# Altium footprint library Molex_Picoblade_6pin_530470610.PcbLib: 1 footprints
Each footprint in its own frame and in the unit in brackets; x right, y up, seen from the top. Pads: shape width x height; smd on the part's side, far side on the other; paste and mask are expansions set on the pad; w line width, h text height; cw(c..) or ccw(c..) is an arc to the next point about the centre after c.
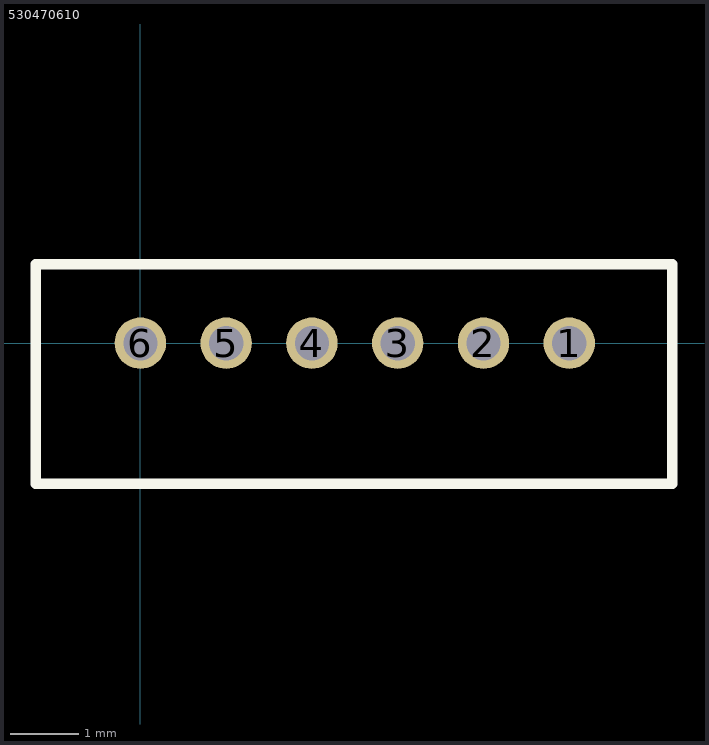
[diagram p0: the footprint, top view; thin cyan lines are the x and y axes]

## 530470610 [mm] "Molex Picoblade 6 pin"
pads (6):
  round 0.75 hole 0.5: 1(6.25,0) 2(5,0) 3(3.75,0) 4(2.5,0) 5(1.25,0) 6(0,0)
Top Overlay:
  lines w0.15: -1.524,1.15 7.749,1.15 7.75,-2.05 -1.523,-2.05 -1.524,1.15
3D body "Molex_530470610.stp": height 4.28, standoff -2.22, extent -1.503,-2.057 7.747,1.143